# Altium schematic symbol library PRL_PDC.SchLib: 91 symbols
Pins are listed as number, name and electrical type; pins without a type are passive.

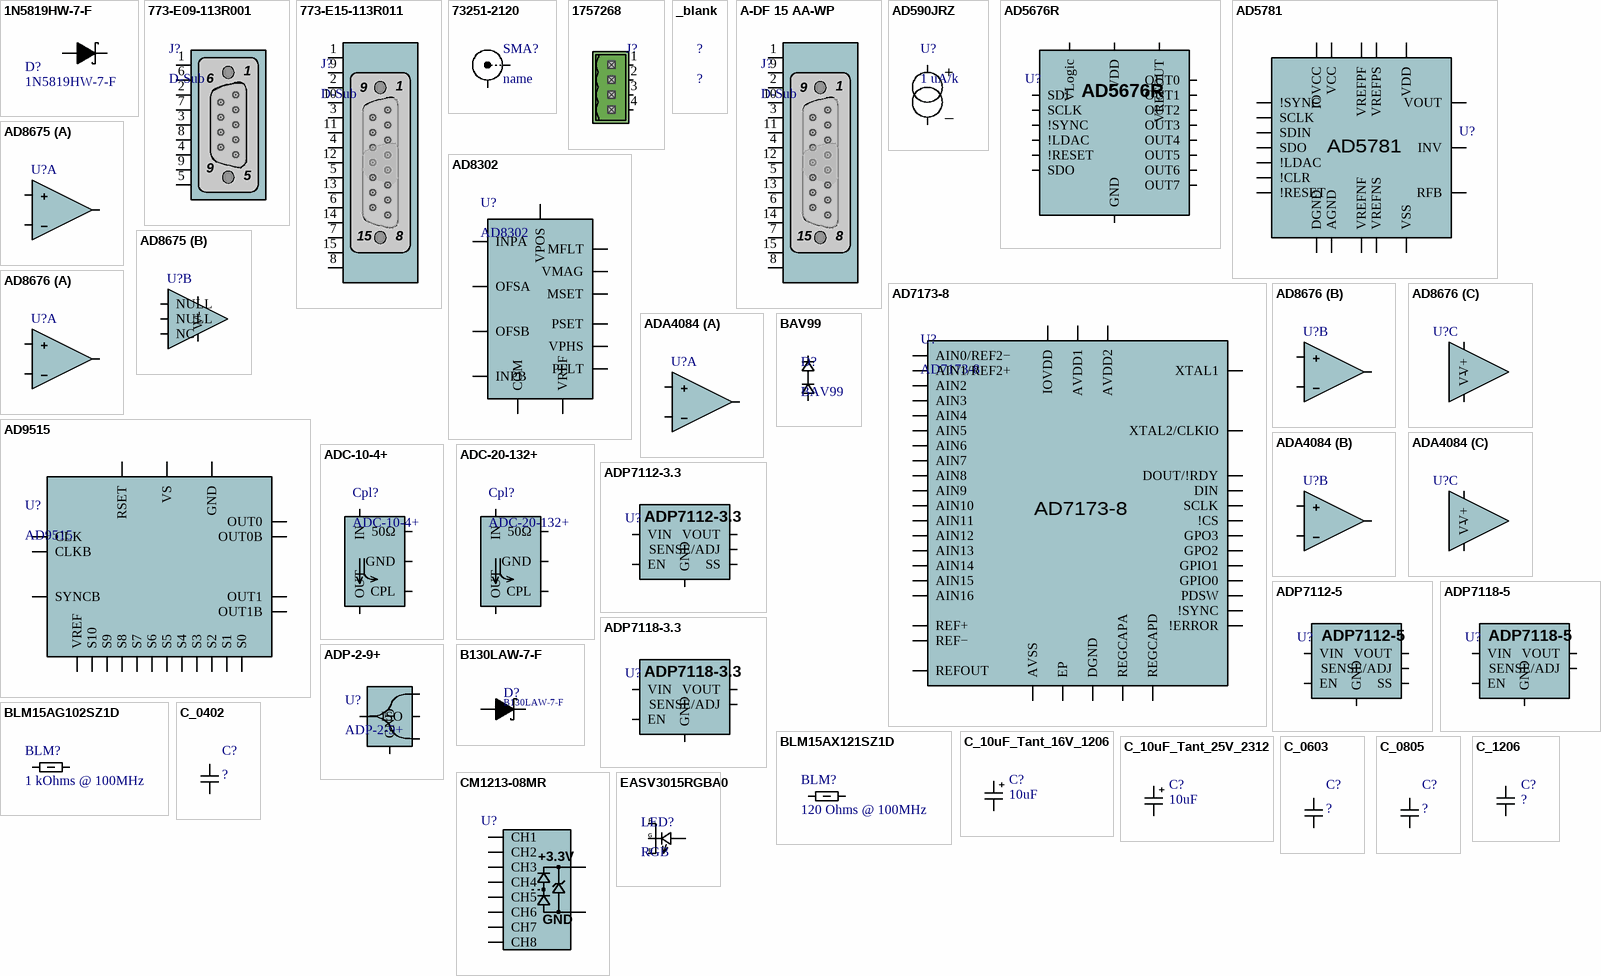
[diagram p0: symbols 1N5819HW-7-F to EASV3015RGBA0]

## 1N5819HW-7-F
designator D?
Diode Schottky 40V 1A Surface Mount SOD-123; Manufacturer: Diodes Incorporated; Pin Count: 2; Package: SOD123; ManufacturerNr: 1N5819HW-7-F; HelpURL: https://www.diodes.com/assets/Datasheets/ds30217.pdf; Supplier 1: Digi-Key; Supplier Part Number 1: 1N5819HW-FDICT-ND
footprint SOD123 (SOD123 DIODE)
pins: 1 A, 2 K

## 773-E09-113R001
designator J?, comment D-Sub
9 Position D-Sub Plug, Male Pins Connector; HelpURL: https://media.digikey.com/pdf/Data%20Sheets/Norcomp%20PDFs/773-EYY-113RYY1_rev5.pdf; Supplier 1: Digi-Key; Supplier Part Number 1: NOR1012-ND
footprint 773-E09-113R001 (9 Position D-Sub Plug, Male Pins Connector)
pins: 1, 2, 3, 4, 5, 6, 7, 8, 9

## 773-E15-113R011
designator J?, comment D-Sub
15 Position D-Sub Plug, Male Pins Connector; HelpURL: https://media.digikey.com/pdf/Data%20Sheets/Norcomp%20PDFs/773-EYY-113RYY1_rev5.pdf; Supplier 1: Digi-Key; Supplier Part Number 1: NOR1069-ND
footprint 773-E15-113 (15Position D-Sub Plug, Male Pins Connector)
pins: 1, 2, 3, 4, 5, 6, 7, 8, 9, 10, 11, 12, 13, 14, 15

## 73251-2120
designator SMA?, comment name
SMA BOARD EDGE LONG; HelpURL: http://www.farnell.com/datasheets/2673536.pdf; Case: 73251-2120; Supplier 1: 1909303; Supplier Part Number 1: Farnell
footprint SMA Jack (SMA Jack Board Edge)
pins: 0 RF, 1 GND, 2 GND

## 1757268
designator J?  (value not drawn)
TERM BLOCK HDR 4POS 90DEG 5.08MM; HelpURL: https://media.digikey.com/pdf/Data%20Sheets/Phoenix%20Contact%20PDFs/1757268.pdf; Supplier 1: Digi-Key; Supplier Part Number 1: 277-1108-ND
footprint 1757268 (TERM BLOCK HDR 4POS 90DEG 5.08MM)
pins: 1, 2, 3, 4

## _blank
designator ?, comment ?
Value: *

## A-DF 15 AA-WP
designator J?, comment D-Sub
15 Position D-Sub Plug, Female Pins Connector; HelpURL: http://www.assmann-wsw.com/fileadmin/datasheets/ASS_3251_CO.pdf; Supplier 1: Digi-Key; Supplier Part Number 1: AE10105-ND
footprint AE10105-ND (15Position D-Sub Plug, Male Pins Connector)
pins: 1, 2, 3, 4, 5, 6, 7, 8, 9, 10, 11, 12, 13, 14, 15

## AD590JRZ
designator U?, comment 1 uA/k
2-Terminal IC / Temperature Transducer; HelpURL: https://www.analog.com/media/en/technical-documentation/data-sheets/AD590.pdf; Case: 8SOIC; Supplier 1: Digi-Key; Supplier Part Number 1: AD590JRZ-ND
footprint SOIC8 (SOIC, 8-Leads, Body 4,90x3,90mm, Pitch 1,27mm, IPC Medium Density)
pins: 1 hidden, 2 +, 3 -, 4 hidden, 5 hidden, 6 hidden, 7 hidden, 8 hidden
text: –

## AD5676R
designator U?  (value not drawn)
Octal, 16-Bit nanoDAC+ with 2 ppm/°C Reference, SPI Interface /; HelpURL: https://www.analog.com/media/en/technical-documentation/data-sheets/ad5672r_5676r.pdf; Case: 20-WFQFN Exposed Pad, CSP; Supplier 1: Digi-Key; Supplier Part Number 1: AD5676RACPZ-REEL7CT-ND
footprint LFCSP-20 (20 LFCSP 4 mm × 4 mm Body)
pins: 1 VDD, 2 VLogic, 3 !SYNC, 4 SCLK, 5 SDI, 6 OUT7, 7 OUT6, 8 OUT5, 9 OUT4, 10 NC hidden, 11 GND, 12 !LDAC, 13 SDO, 14 !RESET, 15 VREFOUT, 16 NC hidden, 17 OUT3, 18 OUT2, 19 OUT1, 20 OUT0, EP

## AD5781
designator U?
DAC True 18-Bit / Voltage Output / ±0.5 LSB INL / ±0.5 LSB DNL; Case: TSSOP-20; HelpURL: https://www.analog.com/media/en/technical-documentation/data-sheets/AD5781.pdf; Supplier Part Number 1: 1864682; Supplier: Farnell
footprint TSSOP20 (20-Lead Plastic TSSOP (6.5mm))
pins: 1 INV, 2 VOUT, 3 VREFPS, 4 VREFPF, 5 VDD, 6 !RESET, 7 !CLR, 8 !LDAC, 9 VCC, 10 IOVCC, 11 SDO, 12 SDIN, 13 SCLK, 14 !SYNC, 15 DGND, 16 VREFNF, 17 VREFNS, 18 VSS, 19 AGND, 20 RFB

## AD7173-8
designator U?
Highly Integrated 24 Bit Sigma-Delta ADC / 8-/16-Channel / Low Power / 31.25 kSPS; Case: LFCSP40; HelpURL: https://www.analog.com/media/en/technical-documentation/data-sheets/AD7173-8.pdf; Supplier Part Number 1: 2377349; Supplier: Farnell
footprint LFCSP-40 (QFN, 40-Leads, Body 6,1x6,1mm (max), Pitch 0,50mm, IPC Medium Density)
pins: 1 AIN16, 2 AIN0/REF2−, 3 AIN1/REF2+, 4 AIN2, 5 AIN3, 6 REFOUT, 7 REGCAPA, 8 AVSS, 9 AVDD1, 10 AVDD2, 11 PDSW, 12 XTAL1, 13 XTAL2/CLKIO, 14 DOUT/!RDY, 15 DIN, 16 SCLK, 17 !CS, 18 !ERROR, 19 !SYNC, 20 IOVDD, 21 DGND, 22 REGCAPD, 23 GPIO0, 24 GPIO1, 25 GPO2, 26 AIN4, 27 AIN5, 28 AIN6, 29 AIN7, 30 AIN8, 31 AIN9, 32 AIN10, 33 AIN11, 34 AIN12, 35 AIN13, 36 AIN14, 37 AIN15, 38 GPO3, 39 REF−, 40 REF+, EP

## AD8302
designator U?
RF/IF Gain and Phase Detector / • LF–2.7 GHz /; HelpURL: https://www.analog.com/media/en/technical-documentation/data-sheets/ad8302.pdf; Supplier 1: Farnell; Supplier Part Number 1: 1498702; ComponentLink1Description: Datasheet; ComponentLink1URL: https://www.analog.com/media/en/technical-documentation/data-sheets/ad8302.pdf; ComponentLink2Description: Manufacturer Data; ComponentLink2URL: https://www.analog.com/en/products/ad8302.html#product-overview; Case: TSSOP14
footprint TSSOP14 (14-Lead Plastic TSSOP (4.4mm))
pins: 1 COM, 2 INPA, 3 OFSA, 4 VPOS, 5 OFSB, 6 INPB, 7 COM, 8 PFLT, 9 VPHS, 10 PSET, 11 VREF, 12 MSET, 13 VMAG, 14 MFLT

## AD8675
designator U?  (value not drawn)
36 V Precision, 2.8 nV/√Hz Rail-to-Rail Output Op Amp; HelpURL: https://www.analog.com/media/en/technical-documentation/data-sheets/AD8675.pdf; Supplier 1: Farnell; Supplier Part Number 1: AD8675ARZ
footprint SOIC8 (SOIC, 8-Leads, Body 4,90x3,90mm, Pitch 1,27mm, IPC Medium Density)
part A pins: 2 -, 3 +, 6 Out
part B pins: 1 NULL, 4 V-, 5 NC, 7 V+, 8 NULL

## AD8676
designator U?  (value not drawn)
Ultra Precision, 36 V, 2.8 nV/√Hz Dual RRO Op Amp; HelpURL: https://www.analog.com/media/en/technical-documentation/data-sheets/AD8676.pdf; Supplier 1: Digi-Key; Supplier Part Number 1: AD8676ARZ-ND
footprint SOIC8 (SOIC, 8-Leads, Body 4,90x3,90mm, Pitch 1,27mm, IPC Medium Density)
part A pins: 1 Aout, 2 -A, 3 +A
part B pins: 5 +B, 6 -B, 7 BOut
part C pins: 4 V-, 8 V+

## AD9515
designator U?
1.6 GHz Clock Distribution IC, Dividers, Delay Adjust, Two Outputs; HelpURL: https://www.analog.com/media/en/technical-documentation/data-sheets/AD9515.pdf; Case: LFCSP32; Supplier 1: Digi-Key; Supplier Part Number 1: AD9515BCPZ-REEL7CT-ND
footprint LFCSP-32 (32 LFCSP 5 mm × 5 mm Body, Very Thin Quad)
pins: 1 VS, 2 CLK, 3 CLKB, 4 VS, 5 SYNCB, 6 VREF, 7 S10, 8 S9, 9 S8, 10 S7, 11 S6, 12 S5, 13 S4, 14 S3, 15 S2, 16 S1, 17 VS, 18 OUT1B, 19 OUT1, 20 VS, 21 VS, 22 OUT0B, 23 OUT0, 24 VS, 25 S0, 26 VS, 27 DNC hidden, 28 DNC hidden, 29 VS, 30 VS, 31 GND, 32 RSET, EP

## ADA4084
designator U?  (value not drawn)
DUAL OP AMP; HelpURL: https://www.analog.com/media/en/technical-documentation/data-sheets/ADA4084-1_4084-2_4084-4.pdf; Supplier 1: Digi-Key; Supplier Part Number 1: ADA4084-2ARZ
footprint SOIC8 (SOIC, 8-Leads, Body 4,90x3,90mm, Pitch 1,27mm, IPC Medium Density)
part A pins: 1 Aout, 2 -A, 3 +A
part B pins: 5 +B, 6 -B, 7 BOut
part C pins: 4 V-, 8 V+

## ADC-10-4+
designator Cpl?
Directional Coupler / • wideband, 5-1000 MHz / • low mainline loss, 0.8 dB typ. / • high directivity, 40 dB typ.; HelpURL: https://ww2.minicircuits.com/pdfs/ADC-10-4+.pdf; Supplier 1: Mini-Circuits; Supplier Part Number 1: ADC-10-4+; ComponentLink1Description: Datasheet; ComponentLink1URL: https://ww2.minicircuits.com/pdfs/ADC-10-4+.pdf; ComponentLink2Description: Manufacturer Data; ComponentLink2URL: https://www.minicircuits.com/WebStore/dashboard.html?model=ADC-10-4%2B; Case: CD542
footprint CD542 (Mini-Circuits CD542)
pins: 1 IN, 2 GND, 3 CPL, 4 50Ω, 5 ISOL hidden "NC", 6 OUT

## ADC-20-132+
designator Cpl?
20 dB SMT Directional Coupler, 100 - 1300 MHz, 50Ω; HelpURL: https://www.minicircuits.com/pdfs/ADC-20-132+.pdf; Supplier 1: Mini-Circuits; Supplier Part Number 1: ADC-20-132+; ComponentLink1Description: Datasheet; ComponentLink1URL: https://ww2.minicircuits.com/pdfs/ADC-10-4+.pdf; ComponentLink2Description: Manufacturer Data; ComponentLink2URL: https://www.minicircuits.com/WebStore/dashboard.html?model=ADC-10-4%2B; Case: CD542
footprint CD542 (Mini-Circuits CD542)
pins: 1 IN, 2 GND, 3 CPL, 4 50Ω, 5 ISOL hidden "NC", 6 OUT

## ADP7112-3.3
designator U?, comment 3.3V  (value not drawn)
Max 20 V, 200 mA, Low Noise, CMOS LDO Linear Regulator; HelpURL: https://www.analog.com/media/en/technical-documentation/data-sheets/ADP7112.pdf; Case: WLCSP-6; Supplier 1: Digi-Key; Supplier Part Number 1: ADP7112ACBZ-3.3-R7CT-ND; Value: 3.3V
footprint WLCSP-6 (6-Ball Wafer Level Chip Scale Package 1.00 mm × 1.20 mm Body)
pins: A1 VIN, A2 VOUT, B1 SS, B2 SENSE/ADJ, C1 EN, C2 GND

## ADP7112-5
designator U?, comment 5V  (value not drawn)
Max 20 V, 200 mA, Low Noise, CMOS LDO Linear Regulator; HelpURL: https://www.analog.com/media/en/technical-documentation/data-sheets/ADP7112.pdf; Case: WLCSP-6; Supplier 1: Digi-Key; Supplier Part Number 1: ADP7112ACBZ-5.0-R7CT-ND; Value: 5V
footprint WLCSP-6 (6-Ball Wafer Level Chip Scale Package 1.00 mm × 1.20 mm Body)
pins: A1 VIN, A2 VOUT, B1 SS, B2 SENSE/ADJ, C1 EN, C2 GND

## ADP7118-3.3
designator U?, comment 3.3V  (value not drawn)
20 V, 200 mA, Low Noise, / CMOS LDO Linear Regulator; HelpURL: https://www.analog.com/media/en/technical-documentation/data-sheets/adp7118.pdf; Case: TSOT-23-5; Supplier 1: Digi-Key; Supplier Part Number 1: ADP7118AUJZ-3.3-R7CT-ND; Value: 3.3V
footprint SOT-23-5
pins: 1 VIN, 2 GND, 3 EN, 4 SENSE/ADJ, 5 VOUT

## ADP7118-5
designator U?, comment 5V  (value not drawn)
20 V, 200 mA, Low Noise, / CMOS LDO Linear Regulator; HelpURL: https://www.analog.com/media/en/technical-documentation/data-sheets/adp7118.pdf; Case: TSOT-23-5; Supplier 1: Digi-Key; Supplier Part Number 1: ADP7118AUJZ-5.0-R7CT-ND; Value: 5V
footprint SOT-23-5
pins: 1 VIN, 2 GND, 3 EN, 4 SENSE/ADJ, 5 VOUT

## ADP-2-9+
designator U?
Power Splitter/Combiner / • 2 Way-0° / • 50Ω / • 200 to 900 MHz; HelpURL: https://ww2.minicircuits.com/pdfs/ADP-2-9+.pdf; Supplier 1: Mini-Circuits; Supplier Part Number 1: ADP-2-9+; ComponentLink1Description: Datasheet; ComponentLink1URL: https://ww2.minicircuits.com/pdfs/ADP-2-9+.pdf; ComponentLink2Description: Manufacturer Data; ComponentLink2URL: https://www.minicircuits.com/WebStore/dashboard.html?model=ADP-2-9%2B; Case: CD636
footprint CD636 (Mini-Circuits CD636)
pins: 1 SUM, 2 ISO, 3 P1, 4 P2, 5 ISO, 6 GND

## B130LAW-7-F
designator D?
Surface mount Schottky barrier Rectifier Diode; HelpURL: http://www.farnell.com/datasheets/887879.pdf?_ga=2.236035713.1417465569.1506019182-486400827.1488280890; Supplier 1: Farnell; Package: SOD-123; Supplier Part Number 1: 1858617
footprint SOD123 (SOD123 DIODE)
pins: 1 A, 2 K

## BAV99
designator D?
HelpURL: https://assets.nexperia.com/documents/data-sheet/BAV99_SER.pdf; Case: SOT-23-3; Supplier 1: Digi-Key; Supplier Part Number 1: 1727-4311-1-ND
footprint SOT-23
pins: 1 A1, 2 C2, 3 C1A2

## BLM15AG102SZ1D
designator BLM?, comment 1 kOhms @ 100MHz
1 kOhms @ 100MHz 1 Signal Line Ferrite Bead 0402 (1005 Metric) 300mA 650mOhm; Case: 0402; Supplier 1: Digi-Key; Supplier Part Number 1: 490-16511-1-ND; HelpURL: https://www.murata.com/en-us/products/productdata/8796748677150/QNFA9118.pdf
footprint 0402-Inductor (0402 Inductor)
pins: 1, 2

## BLM15AX121SZ1D
designator BLM?, comment 120 Ohms @ 100MHz
120 Ohms @ 100MHz 1 Power, Signal Line Ferrite Bead 0402 (1005 Metric) 700mA 130mOhm; Case: 0402; Supplier 1: Digi-Key; Supplier Part Number 1: 490-16510-1-ND; HelpURL: https://www.murata.com/en-us/products/productdata/8796748677150/QNFA9118.pdf
footprint 0402-Inductor (0402 Inductor)
pins: 1, 2

## C_10uF_Tant_16V_1206
designator C?, comment 10uF
CAP TANT 10UF 10% 16V 1206; Voltage Rating: 16; Value: 10uF; Supplier 1: Digi-Key; Supplier Part Number 1: 399-8269-1-ND; Case: 1206
footprint 1206-cap_tant
pins: 1 +, 2 -

## C_10uF_Tant_25V_2312
designator C?, comment 10uF
CAP TANT 10UF 10% 25V 2312; Value: 10uF; Voltage Rating: 25V; Supplier 1: Digi-Key; Supplier Part Number 1: 399-3734-1-ND; Case: 2312; HelpURL: https://content.kemet.com/datasheets/KEM_T2005_T491.pdf
footprint 2312-6032 Tantalum Capacitor
pins: +, -

## C_0402
designator C?, comment ?
Capacitor 0402; Voltage Rating: 16V; Dielectric: X7R/C0G; Tolerance: ±20%; Value: ?; Case: 0402
footprint 0402-Capacitor (Chip Capacitor, 2-Leads, Body 1,00x0,50mm, IPC Medium Density)
pins: 1, 2

## C_0603
designator C?, comment ?
Capacitor 0603; Dielectric: X7R/C0G; Voltage Rating: 16V; Tolerance: ±20%; Value: ?; Case: 0603
footprint 0603-Capacitor (Chip Resistor, 2-Leads, Body 1,6x0,8mm, IPC Medium Density)
pins: 1, 2

## C_0805
designator C?, comment ?
Capacitor 0805; Dielectric: X7R/C0G; Voltage Rating: 16V; Tolerance: ±20%; Value: ?; Case: 0805
footprint 0805-Capacitor (Chip Resistor, 2-Leads, Body 2,1x1,3mm, IPC Medium Density)
pins: 1, 2

## C_1206
designator C?, comment ?
Capacitor 1206; Voltage Rating: 16V; Dielectric: X7R/C0G; Tolerance: ±20%; Value: ?; Case: 1206
footprint 1206-capacitor
pins: 1, 2

## CM1213-08MR
designator U?, comment A-ESD  (value not drawn)
8-Channel / Low Capacitance ESD / Protection Array; HelpURL: https://www.onsemi.com/pub/Collateral/CM1213-D.PDF; Case: 10-MSOP; Supplier 1: Farnell; Supplier Part Number 1: 2533250
footprint MSOP10 3x3mm
pins: 1 CH1, 2 CH2, 3 CH3, 4 CH4, 5 VN, 6 CH5, 7 CH6, 8 VP, 9 CH7, 10 CH8
text: +3.3V; GND

## EASV3015RGBA0
designator LED?, comment RGB
LED RGB CLEAR 4SMD R/A; HelpURL: https://everlightamericas.com/index.php?controller=attachment&id_attachment=3220; Case: 4-SMD, No Lead; Supplier 1: Digi-Key; Supplier Part Number 1: 1080-1502-1-ND; Value: RGB
footprint EASV3015RGBA0 (LED RGB CLEAR 4SMD R/A)
pins: 1 A+, 2 B-, 3 G-, 4 R-
text: R; G; B

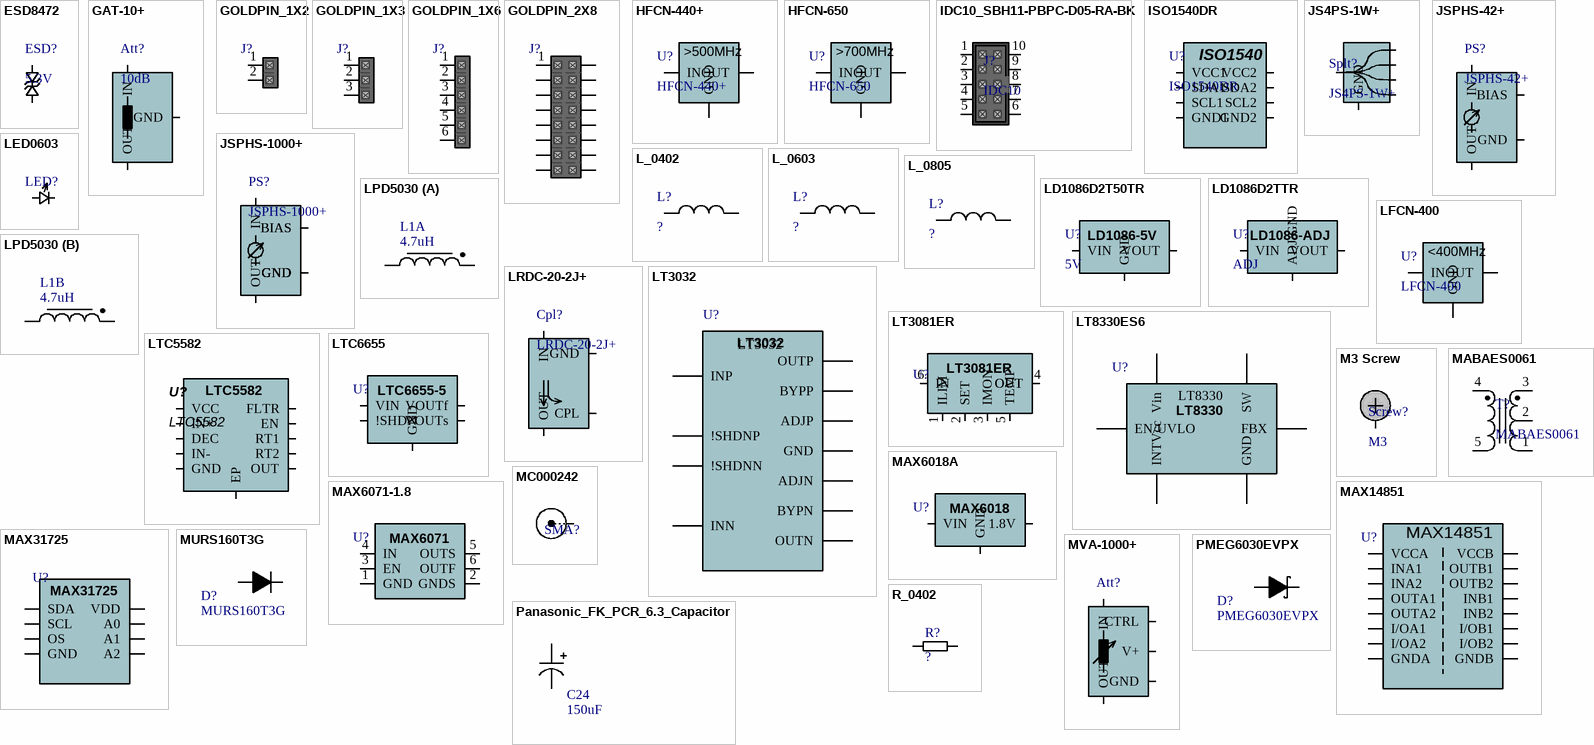
[diagram p1: symbols ESD8472 to R_0402]

## ESD8472
designator ESD?, comment 5.3V
Ultra−Low Capacitance / Micro−Packaged Diodes for ESD Protection / Insertion Loss: 0.030 dBm; HelpURL: https://www.onsemi.com/pub/Collateral/ESD8472-D.PDF; Case: X3DFN2; Supplier 1: Digi-Key; Supplier Part Number 1: ESD8472MUT5GOSCT-ND
footprint X3DFN2 (0.62x0.32, 0.355P, (0201))
pins: 1, 2

## GAT-10+
designator Att?, comment 10dB
10 dB SMT Fixed Attenuator, DC - 8000 MHz, 50Ω; HelpURL: https://ww2.minicircuits.com/pdfs/GAT-10+.pdf; Case: FG873; Supplier 1: Mini-Circuits; Supplier Part Number 1: GAT-10+; Value: 10dB
footprint FG873 (Minicircuits FG873)
pins: 1 IN, 2 GND, 3 OUT, 4 GND

## GOLDPIN_1X2
designator J?
HelpURL: http://suddendocs.samtec.com/catalog_english/tsm.pdf; Supplier 1: Digi-Key; Supplier Part Number 1: SAM15880-ND
footprint HDR_1x2 SMD (Male Header, Pitch 2.54mm, 2x1 Position, Mated Height 6mm, Tail Length 3mm)
pins: 1, 2

## GOLDPIN_1X3
designator J?
HelpURL: http://suddendocs.samtec.com/catalog_english/tsm.pdf; Supplier 1: Digi-Key; Supplier Part Number 1: SAM10276-ND
footprint HDR_1x3 SMD (Male Header, Pitch 2.54mm, 3x1 Position, Mated Height 6mm, Tail Length 3mm)
pins: 1, 2, 3

## GOLDPIN_1X6
designator J?
HelpURL: https://www.metz-connect.com/us/system/files/productfiles/Data_sheet_PM202XXVBNN.PDF; Supplier 1: Digi-Key; Supplier Part Number 1: 1849-1036-ND
footprint HDR_1x6 SMD (Male Header, Pitch 2.54mm, 6x1 Position, Mated Height 6mm, Tail Length 3mm)
pins: 1, 2, 3, 4, 5, 6

## GOLDPIN_2X8
designator J?
HelpURL: https://cdn.amphenol-icc.com/media/wysiwyg/files/drawing/95278.pdf; Supplier 1: Digi-Key; Supplier Part Number 1: 609-6422-ND
footprint HDR_2x8 SMD
pins: 1, 2, 3, 4, 5, 6, 7, 8, 9, 10, 11, 12, 13, 14, 15, 16

## HFCN-440+
designator U?
Ceramic High Pass Filter / • 50Ω / • 500 to 2500 MHz; HelpURL: https://ww2.minicircuits.com/pdfs/HFCN-440+.pdf; Supplier 1: Mini-Circuits; Supplier Part Number 1: HFCN-440+; ComponentLink1Description: Datasheet; ComponentLink1URL: https://ww2.minicircuits.com/pdfs/HFCN-440+.pdf; ComponentLink2Description: Manufacturer Data; ComponentLink2URL: https://www.minicircuits.com/WebStore/dashboard.html?model=HFCN-440%2B; Case: FV1206
footprint FV1206 (Chip ceramic LTCC filter)
pins: 1 IN, 2 GND, 3 OUT, 4 GND
text: >500MHz

## HFCN-650
designator U?
Ceramic High Pass Filter / • 50Ω / • 710 to 2490 MHz; HelpURL: https://www.minicircuits.com/pdfs/HFCN-650.pdf; Supplier 1: Mini-Circuits; Supplier Part Number 1: HFCN-650; ComponentLink1Description: Datasheet; ComponentLink1URL: https://ww2.minicircuits.com/pdfs/HFCN-440+.pdf; ComponentLink2Description: Manufacturer Data; ComponentLink2URL: https://www.minicircuits.com/WebStore/dashboard.html?model=HFCN-440%2B; Case: FV1206
footprint FV1206 (Chip ceramic LTCC filter)
pins: 1 IN, 2 GND, 3 OUT, 4 GND
text: >700MHz

## IDC10_SBH11-PBPC-D05-RA-BK
designator J?, comment IDC10
Connector Header Through Hole, Right Angle 10 position 0.100" (2.54mm); HelpURL: https://s3.amazonaws.com/catalogspreads-pdf/PAGE122%20.100%20SBH11%20SERIES%20MALE%20BOX%20HDR%20ST%20RA%20SMT.pdf; Case: IDC-10; Supplier 1: Digi-Key; Supplier Part Number 1: S9177-ND; Value: *
footprint IDC-10 Angle (Connector Header Through Hole, Right Angle 10 position 0.100" (2.54mm))
pins: 1, 2, 3, 4, 5, 6, 7, 8, 9, 10

## ISO1540DR
designator U?
12 Weeks / Detailed Description I²C Digital Isolator 2500Vrms 2 Channel 1Mbps 25kV/µs CMTI 8-SOIC (0.154", 3.90mm Width); HelpURL: http://www.ti.com/lit/ds/symlink/iso1540.pdf; Case: 8-SOIC; Supplier 1: Digi-Key; Supplier Part Number 1: 296-34871-1-ND
footprint SOIC8 (SOIC, 8-Leads, Body 4,90x3,90mm, Pitch 1,27mm, IPC Medium Density)
pins: 1 VCC1, 2 SDA1, 3 SCL1, 4 GND1, 5 GND2, 6 SCL2, 7 SDA2, 8 VCC2
text: ISO1540

## JS4PS-1W+
designator Splt?
Power Splitter/Combiner / • 4 Way / • 50Ω / • 5 to 100 MHz; HelpURL: https://ww2.minicircuits.com/pdfs/JS4PS-1W.pdf; Supplier 1: Mini-Circuits; Supplier Part Number 1: JS4PS-1W+; ComponentLink1Description: Datasheet; ComponentLink1URL: https://ww2.minicircuits.com/pdfs/SCA-3-11+.pdf; ComponentLink2Description: Manufacturer Data; ComponentLink2URL: https://www.minicircuits.com/WebStore/dashboard.html?model=SCA-3-11%2B; Case: BK377
footprint BK377 (Mini-circuits)
pins: 1 GND, 2 GND, 3 S, 4 GND, 5 GND, 6 P1, 7 P2, 8 GND, 9 P3, 10 P4, 11 GND, 12 GND, 13 GND, 14 GND

## JSPHS-42+
designator PS?
Narrow Band Phase Shifter / • 50 Ohm / • 180 deg Voltage Variable / • 300 MHz to 400 MHz /; HelpURL: https://ww2.minicircuits.com/pdfs/JSPHS-42+.pdf; Supplier 1: Mini-Circuits; Supplier Part Number 1: JSPHS-42+; ComponentLink1Description: Datasheet; ComponentLink1URL: https://ww2.minicircuits.com/pdfs/JSPHS-42+.pdf; ComponentLink2Description: Manufacturer Data; ComponentLink2URL: https://www.minicircuits.com/WebStore/dashboard.html?model=JSPHS-42%2B; Case: BK276
footprint BK276 (Mini-circuits phase shifter)
pins: 1 BIAS, 2 GND, 3 GND, 4 GND, 5 GND, 6 GND, 7 BIAS, 8 OUT, 9 GND, 10 GND, 11 GND, 12 GND, 13 GND, 14 IN

## JSPHS-1000+
designator PS?
Narrow Band Phase Shifter / • 50 Ohm / • 180 deg Voltage Variable / • 700 MHz to 1000 MHz /; HelpURL: https://ww2.minicircuits.com/pdfs/JSPHS-1000+.pdf; Supplier 1: Mini-Circuits; Supplier Part Number 1: JSPHS-1000+; ComponentLink1Description: Datasheet; ComponentLink1URL: https://ww2.minicircuits.com/pdfs/JSPHS-1000+.pdf; ComponentLink2Description: Manufacturer Data; ComponentLink2URL: https://www.minicircuits.com/WebStore/dashboard.html?model=JSPHS-1000%2B; Case: BK276
footprint BK276 (Mini-circuits phase shifter)
pins: 1 IN, 2 GND, 3 GND, 4 BIAS, 5 GND, 6 BIAS, 7 OUT, 8 GND, 9 GND, 10 GND, 11 GND, 12 GND, 13 GND, 14 GND

## L_0402
designator L?, comment ?
Inductor 0402; Case: 0402; Value: ?
footprint 0402-Inductor (0402 Inductor)
pins: 1, 2

## L_0603
designator L?, comment ?
Inductor 0603; Case: 0603; Value: ?
footprint 0603-Inductor (Inductor 0603)
pins: 1, 2

## L_0805
designator L?, comment ?
Inductor 0805; Case: 0805; Value: ?
footprint 0805-Inductor (2-Leads, Body 2,1x1,3mm, IPC Medium Density)
pins: 1, 2

## LD1086D2T50TR
designator U?, comment 5V
1.5 A fixed 5V low drop positive voltage regulator; HelpURL: https://www.st.com/content/ccc/resource/technical/document/datasheet/53/db/00/58/09/98/4b/36/CD00001884.pdf/files/CD00001884.pdf/jcr:content/translations/en.CD00001884.pdf; Case: D2PAK; Supplier 1: Digi-Key; Supplier Part Number 1: 497-1225-1-ND; Value: 5V
footprint D2PAK (TO-263-3, D²Pak (2 Leads + Tab), TO-263AB)
pins: 1 GND, 2 VIN, EP VOUT
text: LD1086-5V

## LD1086D2TTR
designator U?, comment ADJ
1.5 A adjustable low drop positive voltage regulator; HelpURL: https://www.st.com/content/ccc/resource/technical/document/datasheet/53/db/00/58/09/98/4b/36/CD00001884.pdf/files/CD00001884.pdf/jcr:content/translations/en.CD00001884.pdf; Case: D2PAK; Supplier 1: Digi-Key; Supplier Part Number 1: 497-3566-1-ND; Value: ADJ
footprint D2PAK (TO-263-3, D²Pak (2 Leads + Tab), TO-263AB)
pins: 1 ADJ/GND, 2 VIN, EP VOUT
text: LD1086-ADJ

## LED0603
designator LED?  (value not drawn)
Color: *; Package: 0603
footprint LED0603 (Chip Diode, 2-Leads, Body 1,60x0,80mm, IPC Medium Density)
pins: A, K

## LFCN-400
designator U?
Ceramic Low Pass Filter / • 50Ω / • DC to 400 MHz; HelpURL: https://ww2.minicircuits.com/pdfs/LFCN-400.pdf; Supplier 1: Mini-Circuits; Supplier Part Number 1: LFCN-400; ComponentLink1Description: Datasheet; ComponentLink1URL: https://ww2.minicircuits.com/pdfs/LFCN-400.pdf; ComponentLink2Description: Manufacturer Data; ComponentLink2URL: https://www.minicircuits.com/WebStore/dashboard.html?model=HFCN-440%2B; Case: FV1206
footprint FV1206 (Chip ceramic LTCC filter)
pins: 1 IN, 2 GND, 3 OUT, 4 GND
text: <400MHz

## LPD5030
designator L1, comment 4.7uH
Shielded Coupled Inductor; Voltage Rating: 100 V; Tolerance: 20%; HelpURL: http://www.farnell.com/datasheets/1862246.pdf?_ga=2.57899747.877596875.1505932278-516227586.1495631175; Supplier 1: Farnell; Package: LPD5030; Supplier Part Number 1: 2434738; Value: 4.7uH
footprint LPD5030 (Footprint not found)
part A pins: 1, 2
part B pins: 3, 4

## LRDC-20-2J+
designator Cpl?
Directional Coupler / • low mainline loss, 0.25 dB typ. / • high directivity, 17 dB typ. / • aqueous washable / • J-leads for strain relief and excellent solderability; HelpURL: https://www.minicircuits.com/pdfs/LRDC-20-2J+.pdf; Supplier 1: Mini-Circuits; Supplier Part Number 1: LRDC-20-2J+; ComponentLink1Description: Datasheet; ComponentLink1URL: https://ww2.minicircuits.com/pdfs/ADC-10-4+.pdf; ComponentLink2Description: Manufacturer Data; ComponentLink2URL: https://www.minicircuits.com/WebStore/dashboard.html?model=ADC-10-4%2B; Case: QQQ569
footprint QQQ569 (Mini-Circuits  QQQ569)
pins: 1 OUT, 2 GND, 3 ISO hidden, 4 CPL, 5 GND hidden, 6 IN

## LT3032
designator U?
Dual 150mA  Positive/Negative Low Noise  Low Dropout Linear Regulator; HelpURL: http://www.farnell.com/datasheets/2281794.pdf?_ga=2.52728161.877596875.1505932278-516227586.1495631175; Supplier 1: Digi-Key; Package: DE14MA; Supplier Part Number 1: LT3032IDE#PBF-ND
footprint DE14MA
pins: 1 OUTP, 2 ADJP, 3 BYPP, 4 GND, 5 GND, 6 INN, 7 OUTN, 8 ADJN, 9 INN, 10 !SHDNN, 11 BYPN, 12 !SHDNP, 14 INP, 15 GND, 16 INN

## LT3081ER
designator U?, comment ADJ  (value not drawn)
1.5A Single Resistor / Rugged Linear Regulator / with Monitors; HelpURL: analog.com/media/en/technical-documentation/data-sheets/3081fc.pdf; Case: 7-DDPAK; Supplier 1: Digi-Key; Supplier Part Number 1: LT3081ER#PBF-ND
footprint D2PAK7 (R Package  7-Lead Plastic DD Pak)
pins: 1 ILIM, 2 SET, 3 IMON, 4 OUT, 5 TEMP, 6 IN, 7 NC hidden, EP OUT

## LT8330ES6
designator U?, comment LT8330
Low IQ Boost/SEPIC/  Inverting Converter  with 1A, 60V Switch; Part Number: LT8330ES6#TRMPBF; HelpURL: http://www.farnell.com/datasheets/2034975.pdf?_ga=2.24943347.877596875.1505932278-516227586.1495631175; Supplier 1: Digi-Key; Package: SOT-23-6; Supplier Part Number 1: LT8330IS6#TRMPBFCT-ND; Pin Count: 6
footprint SOT-23-6
pins: 1 SW, 2 GND, 3 FBX, 4 EN/UVLO, 5 INTVcc, 6 Vin

## LTC5582
designator U?
40MHz to 10GHz RMS Power Detector with 57dB Dynamic Range; HelpURL: https://www.analog.com/media/en/technical-documentation/data-sheets/LTC5582.pdf; Supplier 1: DigiKey; Supplier Part Number 1: LTC5582IDD#PBF-ND
footprint LT-DFN10 (QFN, 10-Leads, Body 3,00x3,00mm, Pitch 0,50mm, Thermal Pad 1,65x2,54mm, IPC Medium Density)
pins: 1 VCC, 2 IN+, 3 DEC, 4 IN-, 5 GND, 6 OUT, 7 RT2, 8 RT1, 9 EN, 10 FLTR, 11 EP

## LTC6655
designator U?  (value not drawn)
5V 0.25ppm Noise, Low Drift / Precision References; HelpURL: https://www.analog.com/media/en/technical-documentation/data-sheets/LTC6655-6655LN.pdf; Supplier 1: Digi-Key; Supplier Part Number 1: LTC6655CHMS8-5#PBF-ND; ComponentLink1Description: Datasheet; ComponentLink1URL: https://ww2.minicircuits.com/pdfs/LFCN-400.pdf; ComponentLink2Description: Manufacturer Data; ComponentLink2URL: https://www.minicircuits.com/WebStore/dashboard.html?model=HFCN-440%2B; Case: 8-MSOP
footprint LT-MS8 (TSOP, 8-Leads, Body 3,00x3,00mm, Pitch 0,65mm, IPC Medium Density)
pins: 1 !SHDN, 2 VIN, 3 GND, 4 GND, 5 GND, 6 VOUTs, 7 VOUTf, 8 GND
text: LTC6655-5

## M3 Screw
designator Screw?, comment M3
footprint M3 Screw (M3mmx10mm Screw)
footprint M3 WIDE Screw (M3mmx10mm Screw)
footprint M3 WIDE Screw + Spacer (M3mmx10mm Screw + 10mm Spacer)
pins: 0

## MABAES0061
designator T?
1:4 E-Series, RF Flux Coupled Transformer / 2 - 800 MHz; HelpURL: https://cdn.macom.com/datasheets/MABAES0061.pdf; Case: MABAES0061; Supplier 1: Digi-Key; Supplier Part Number 1: 1465-1318-1-ND; Value: 1:4
footprint MABAES0061
pins: 1, 2, 3, 4, 5

## MAX6018A
designator U?  (value not drawn)
Precision, Micropower, 1.8V Supply, / Low-Dropout, SOT23 Voltage Reference; Case: SOT23; HelpURL: http://www.farnell.com/datasheets/2001171.pdf; Supplier Part Number 1: 2511289; Supplier: Farnel
footprint SOT-23
pins: 1 VIN, 2 1.8V, 3 GND
text: MAX6018

## MAX6071-1.8
designator U?, comment MAX6071  (value not drawn)
Low-Noise, High-Precision Series / 1.8V Voltage Reference; Case: SOT23-6; HelpURL: https://datasheets.maximintegrated.com/en/ds/MAX6070-MAX6071.pdf; Supplier Part Number 1: 3257466; Supplier 1: Farnel
footprint SOT-23-6
pins: 1 GND, 2 GNDS, 3 EN, 4 IN, 5 OUTS, 6 OUTF

## MAX14851
designator U?, comment ISOLATOR  (value not drawn)
General Purpose Digital Isolator 600Vrms 6 Channel 2Mbps, 50Mbps 3.2kV/µs CMTI 16-SSOP (0.154", 3.90mm Width); HelpURL: https://media.digikey.com/pdf/Data%20Sheets/Maxim%20PDFs/MAX14851_Rev0_9-20-17.pdf; Case: 16-QSOP; Supplier 1: Digi-Key; Supplier Part Number 1: MAX14851AEE+-ND
footprint QSOP16 (16-Lead Quarter Small-Outline Package)
pins: 1 VCCA, 2 INA1, 3 INA2, 4 OUTA1, 5 OUTA2, 6 I/OA1, 7 I/OA2, 8 GNDA, 9 GNDB, 10 I/OB2, 11 I/OB1, 12 INB2, 13 INB1, 14 OUTB2, 15 OUTB1, 16 VCCB

## MAX31725
designator U?  (value not drawn)
±0.5°C Local Temperature Sensor / I2C; HelpURL: http://www.farnell.com/datasheets/2002020.pdf; Supplier 1: Farnell; Supplier Part Number 1: 2515617; ComponentLink1Description: Datasheet; ComponentLink1URL: https://ww2.minicircuits.com/pdfs/LFCN-400.pdf; ComponentLink2Description: Manufacturer Data; ComponentLink2URL: https://www.minicircuits.com/WebStore/dashboard.html?model=HFCN-440%2B; Case: TDFN-8
footprint TDFN-8
pins: 1 SDA, 2 SCL, 3 OS, 4 GND, 5 A2, 6 A1, 7 A0, 8 VDD, EP

## MC000242
designator SMA?
SMA Bulkhead Jack / Front Mount; HelpURL: http://www.farnell.com/datasheets/1686097.pdf?_ga=2.110163462.2015351761.1577118285-755396856.1571840580; Supplier 1: Farnell; Supplier Part Number 1: 2253765
footprint MC000242 (SMA Bulkhead Jack  Front Mount)
pins: 0 RF

## MURS160T3G
designator D?
Surface Mount / Ultrafast Power Rectifier; Manufacturer: ON Semiconductor; Pin Count: 2; Package: SMB; ManufacturerNr: MURS160T3G; HelpURL: https://www.onsemi.com/pub/Collateral/MURS120T3-D.PDF; Supplier 1: Digi-Key; Supplier Part Number 1: MURS160T3GOSCT-ND
footprint SMB (SMB DIODE)
pins: 1 A, 2 K

## MVA-1000+
designator Att?
Voltage Variable Attenuator / • 50Ω / • 50 to 1000 MHz / • 0V to 5V; Case: GP1212; HelpURL: https://ww2.minicircuits.com/pdfs/MVA-1000+.pdf; Supplier Part Number 1: MVA-1000+; Supplier: Mini-Circuits
footprint GP1212 (Minicircuits)
pins: 1 GND, 2 OUT, 3 GND, 4 CTRL, 5 GND, 6 IN, 7 GND, 8 V+

## Panasonic_FK_PCR_6.3_Capacitor
designator C24, comment 150uF
Aluminum Electrolytic Capacitors; Manufacturer: Panasonic; ManufacturerNr: EEEFK1C151XP; Part Number: Panasonic_FK_PCR_6.3_Capacitor; Voltage Rating: 16V; Tolerance: 20%; HelpURL: http://www.farnell.com/datasheets/2002520.pdf?_ga=2.2422448.16562209.1508850292-516227586.1495631175; Supplier 1: Farnell; Package: PCR-6.3-7.7; Supplier Part Number 1: 1850102; Pin Count: 2; Value: 150uF; Dielectric: Aluminum Electrolytic; Series: FK
footprint PCR_6.3 (Aluminum Electrolytic Capacitor, Body d6.3 x 7.7mm)
pins: 1, 2

## PMEG6030EVPX
designator D?
Diode Schottky 60V 3A Surface Mount SOD-128/CFP5; Manufacturer: Nexperia USA Inc.; Pin Count: 2; Package: SOD128; ManufacturerNr: PMEG6030EVPX; HelpURL: https://assets.nexperia.com/documents/data-sheet/PMEG6030EVP.pdf; Supplier 1: Digi-Key; Supplier Part Number 1: 1727-1349-1-ND
footprint SOD128 (SOD128 DIODE)
pins: 1 A, 2 K

## R_0402
designator R?, comment ?
Resistor 0402; Value: ?; Case: 0402
footprint 0402-RESISTOR (Resistor, Capacitor, 2-Leads, Body 1,0x0,5mm, IPC Medium Density)
pins: 1, 2

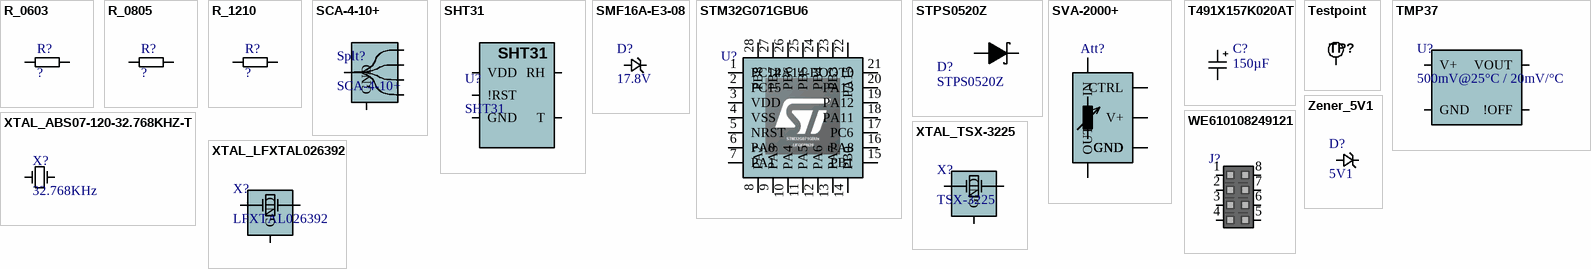
[diagram p2: symbols R_0603 to Zener_5V1]

## R_0603
designator R?, comment ?
Resistor 0603; Value: ?; Case: 0603
footprint 0603-RESISTOR (Chip Resistor, 2-Leads, Body 1,6x0,8mm, IPC Medium Density)
pins: 1, 2

## R_0805
designator R?, comment ?
Resistor 0805; Value: ?; Case: 0805
footprint 0805-Resistor (Chip Resistor, 2-Leads, Body 2,1x1,3mm, IPC Medium Density)
pins: 1, 2

## R_1210
designator R?, comment ?
Resistor 1210; Value: ?; Case: 1210
footprint 1210-Resistor (Chip Resistor, 2-Leads)
pins: 1, 2

## SCA-4-10+
designator Splt?
Power Splitter/Combiner / • 4 Way / • 50Ω / • 5 to 1000 MHz; HelpURL: https://www.minicircuits.com/pdfs/SCA-4-10+.pdf; Supplier 1: Mini-Circuits; Supplier Part Number 1: SCA-4-10+; ComponentLink1Description: Datasheet; ComponentLink1URL: https://ww2.minicircuits.com/pdfs/SCA-3-11+.pdf; ComponentLink2Description: Manufacturer Data; ComponentLink2URL: https://www.minicircuits.com/WebStore/dashboard.html?model=SCA-3-11%2B; Case: DZ943
footprint DZ943 (Minicircuits)
pins: 1 GND, 2 GND, 3 S, 4 GND, 5 GND, 6 P1, 7 P2, 8 GND, 9 P3, 10 P4

## SHT31
designator U?
Humidity and Temperature Sensor IC; HelpURL: https://media.digikey.com/pdf/Data%20Sheets/Sensirion%20PDFs/HT_DS_SHT3x_ARP_V3.pdf; Case: 8-DFN; Supplier 1: Digi-Key; Supplier Part Number 1: 1649-1012-1-ND
footprint TDFN-8 SHT3X-ARP (TDFN-8)
pins: 1 RH, 2 GND, 3 GND, 4 T, 5 VDD, 6 !RST "FLOAT", 7 GND, 8 GND, EP

## SMF16A-E3-08
designator D?, comment 17.8V
26V Clamp 7.7A Ipp Tvs Diode Surface Mount SMF; HelpURL: http://www.vishay.com/docs/85881/smf5v0atosmf58a.pdf; Case: DO-219AB; Supplier 1: Digi-Key; Supplier Part Number 1: SMF16A-E3-08GICT-ND
footprint DO-219AB
pins: A, K

## STM32G071GBU6
designator U?  (value not drawn)
IC MCU 32BIT 128KB FLASH 28QFPN; HelpURL: https://media.digikey.com/pdf/Data%20Sheets/ST%20Microelectronics%20PDFS/STM32G071_Rev1_DS.pdf; Case: 28-UFQFPN; Supplier 1: Digi-Key; Supplier Part Number 1: 497-18343-ND; Value: *
footprint UFQFPN-28 (UFQFPN-28 4X4 BODY)
pins: 1 PC14, 2 PC15, 3 VDD, 4 VSS, 5 NRST, 6 PA0, 7 PA1, 8 PA2, 9 PA3, 10 PA4, 11 PA5, 12 PA6, 13 PA7, 14 PB0, 15 PB1, 16 PA8, 17 PC6, 18 PA11, 19 PA12, 20 PA13, 21 PA14-BOOT0, 22 PA15, 23 PB3, 24 PB4, 25 PB5, 26 PB6, 27 PB7, 28 PB8

## STPS0520Z
designator D?
Schottky Rectifier / 20 V / 500 mA / 320 mV / SOD123; Manufacturer: STMICROELECTRONICS; Pin Count: 2; Package: SOD123; ManufacturerNr: STPS0520Z; HelpURL: http://www.farnell.com/datasheets/1700332.pdf; Supplier 1: Farnell; Supplier Part Number 1: 1467545
footprint SOD123 (SOD123 DIODE)
pins: 1 A, 2 K

## SVA-2000+
designator Att?
Voltage Variable Attenuator / 50Ω 50 to 2000 MHz; Case: FZ990; HelpURL: https://www.minicircuits.com/pdfs/SVA-2000+.pdf; Supplier Part Number 1: SVA-2000+; Supplier: Mini-Circuits
footprint FZ990
pins: 1 OUT, 2 GND, 3 GND, 4 CTRL, 5 GND, 6 GND, 7 GND, 8 IN, 9 GND, 10 GND, 11 V+, 12 GND

## T491X157K020AT
designator C?, comment 150µF
150µF Molded Tantalum Capacitors 20V 2917; Tolerance: ±10%; Value: 150µF; Voltage Rating: 20V; Supplier 1: Digi-Key; Supplier Part Number 1: 399-4794-1-ND; Case: 2917; HelpURL: https://content.kemet.com/datasheets/KEM_T2005_T491.pdf
footprint 2917-7343  Tantalum Capacitor
pins: +, -

## Testpoint
designator TP?
footprint Testpoint
pins: TP

## TMP37
designator U?, comment 500mV@25°C / 20mV/°C
Temperature Sensor Analog, Local 5°C ~ 100°C / 500mV@25°C / 20mV/°C SOT-23-5; HelpURL: https://www.analog.com/media/en/technical-documentation/data-sheets/TMP35_36_37.pdf; Case: SOT23-5; Supplier 1: Digi-Key; Supplier Part Number 1: TMP37GRTZ-REEL7CT-ND
footprint SOT-23-5
pins: 1 VOUT, 2 V+, 3 NC hidden, 4 !OFF, 5 GND

## WE610108249121
designator J?, comment 610108249121  (value not drawn)
Connector Header Surface Mount, Right Angle 8 position 0.100" (2.54mm); HelpURL: https://www.digikey.com/product-detail/en/wurth-electronics-inc/610108249121/732-6068-1-ND/5047533; Case: 610108249121; Supplier 1: Digi-Key; Value: *; Supplier Part Number 1: 732-6068-1-ND
footprint 732-6068-1-ND (Angle Goldpin)
pins: 1, 2, 3, 4, 5, 6, 7, 8

## XTAL_ABS07-120-32.768KHZ-T
designator X?, comment 32.768KHz
32.768kHz ±20ppm Crystal 6pF 55 kOhms 2-SMD, No Lead; HelpURL: https://abracon.com/Resonators/ABS07-120-32.768kHz-T.pdf; Case: 2-SMD; Supplier 1: Digi-Key; Supplier Part Number 1: 535-11937-1-ND; Value: 32.768KHz
footprint 2-SMD-XTAL
pins: 1 OSC1, 2 OSC2

## XTAL_LFXTAL026392
designator X?, comment LFXTAL026392
Kryształ, 16 MHz, SMD, 7mm x 5mm, 50 ppm, 16 pF, 30 ppm, Seria 12SMX; HelpURL: http://www.farnell.com/datasheets/2080672.pdf?_ga=2.99356638.1785413670.1499418746-486400827.1488280890; Supplier 1: Farnell; Supplier Part Number 1: 1276696
footprint LFXTAL026392 (CRYSTAL 16 MHz, SMD, 7mm x 5mm, 100 ppm, 16 pF, 12SMX Series)
pins: 1 OSC1, 2 GND, 3 OSC2, 4 GND

## XTAL_TSX-3225
designator X?, comment TSX-3225
16MHz ±10ppm Crystal 9pF 60 Ohms 4-SMD, No Lead; HelpURL: https://support.epson.biz/td/api/doc_check.php?dl=brief_TSX-3225&lang=en; Supplier 1: Digi-Key; Supplier Part Number 1: SER4070CT-ND
footprint XTAL 3.2 x 2.5 4-SMD (3.20mm x 2.50mm Crystal 4-SMD NO LEAD)
pins: 1 OSC1, 2 GND, 3 OSC2, 4 GND

## Zener_5V1
designator D?, comment 5V1
300 mW SOD−323 Surface Mount / Tight Tolerance; HelpURL: https://www.onsemi.com/pub/Collateral/MM3Z2V4ST1-D.PDF; Case: SOD-323; Supplier 1: Digi-Key; Supplier Part Number 1: MM3Z5V1ST1GOSCT-ND; Value: 5V1
footprint SOD323 (SOD323DIODE)
pins: A, K